# Altium footprint library VSSOP-8.PcbLib: 2 footprints
Each footprint in its own frame and in the unit in brackets; x right, y up, seen from the top. Pads: shape width x height; smd on the part's side, far side on the other; paste and mask are expansions set on the pad; w line width, h text height; cw(c..) or ccw(c..) is an arc to the next point about the centre after c.
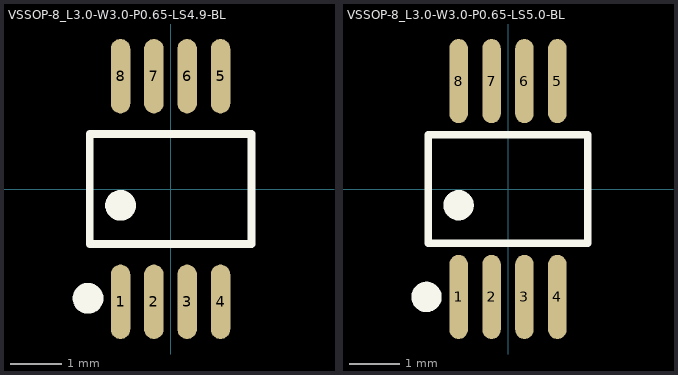
[diagram p0: the footprints below, top view; thin cyan lines are the x and y axes]

## VSSOP-8_L3.0-W3.0-P0.65-LS4.9-BL [mm]
pads (8):
  oval 0.38x1.45 smd paste+0 mask+0.051: 1(-0.975,-2.2) 2(-0.325,-2.2) 3(0.325,-2.2) 4(0.975,-2.2) 5(0.975,2.2) 6(0.325,2.2) 7(-0.325,2.2) 8(-0.975,2.2)
Top Overlay:
  circle w0.3: c-0.975,-0.319 r0.15
  circle w0.3: c-1.609,-2.131 r0.15
  lines w0.152: -1.576,-1.071 -1.576,1.071 1.576,1.071 1.576,-1.071 -1.576,-1.071

## VSSOP-8_L3.0-W3.0-P0.65-LS5.0-BL [mm]
pads (8):
  oval 0.364x1.662 smd paste+0 mask+0.051: 1(-0.975,-2.131) 2(-0.325,-2.131) 3(0.325,-2.131) 4(0.975,-2.131) 5(0.975,2.131) 6(0.325,2.131) 7(-0.325,2.131) 8(-0.975,2.131)
Top Overlay:
  circle w0.3: c-1.609,-2.131 r0.15
  circle w0.3: c-0.975,-0.319 r0.15
  lines w0.152: -1.576,-1.071 1.576,-1.071 1.576,1.071 -1.576,1.071 -1.576,-1.071